# Altium footprint library 058_pcb_2.PcbLib: 23 footprints (part 2 of 2)
Each footprint in its own frame and in the unit in brackets; x right, y up, seen from the top. Pads: shape width x height; smd on the part's side, far side on the other; paste and mask are expansions set on the pad; w line width, h text height; cw(c..) or ccw(c..) is an arc to the next point about the centre after c.
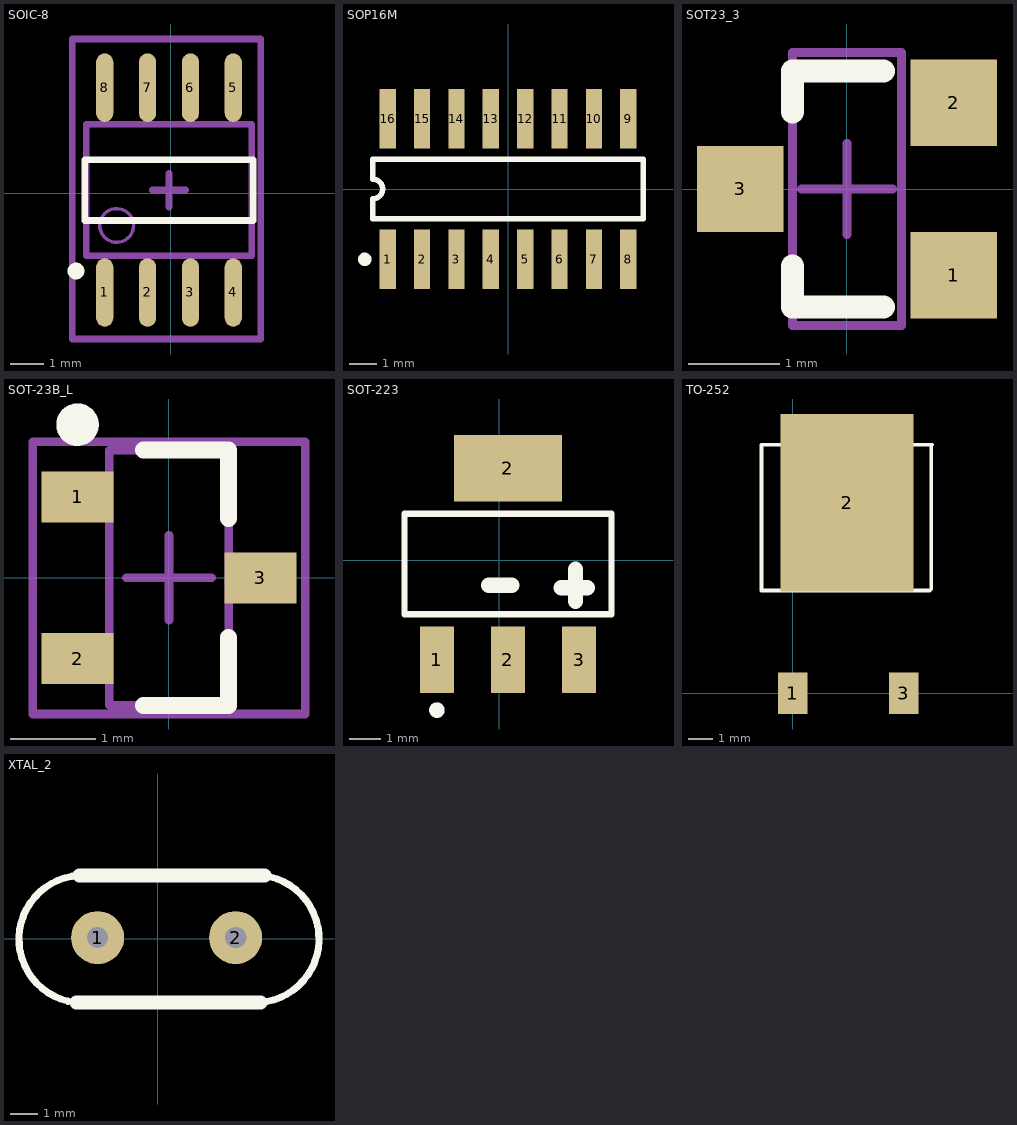
[diagram p1: the footprints below, top view; thin cyan lines are the x and y axes]

## SOIC-8 [mil]
height 33.46
pads (8):
  oval 20x80 smd: 1(-77.09,-115.71) 2(-27.09,-115.71) 3(22.91,-115.71) 4(72.91,-115.71) 5(72.91,123.27) 6(22.91,123.27) 7(-27.09,123.27) 8(-77.09,123.27)
Top Overlay:
  circle w9.84: c-110.55,-90.71 r4.92
  lines w7.87: -100.51,-31.65 96.34,-31.65 96.34,39.21 -100.51,39.21 -100.51,-31.65
Mechanical 13:
  circle w3.94: c-63.11,-37.56 r19.68
  lines w7.87: -98.54,-72.99 94.37,-72.99 94.37,80.55 -98.54,80.55 -98.54,-72.99
Mechanical 15:
  lines w7.87: -21.77,3.78 17.6,3.78 ; -2.09,-15.91 -2.09,23.46 ; -115,-170 105,-170 105,180 -115,180 -115,-170
3D body "SO-8.STEP": height 66.93, standoff 0, extent -96.46,-113.1 96.46,123.12

## SOP16M [mm]
height 0.85
pads (16):
  rect 0.6x2.2 smd: 1(-4.445,-2.6) 2(-3.175,-2.6) 3(-1.905,-2.6) 4(-0.635,-2.6) 5(0.635,-2.6) 6(1.905,-2.6) 7(3.175,-2.6) 8(4.445,-2.6) 9(4.445,2.6) 10(3.175,2.6) 11(1.905,2.6) 12(0.635,2.6) 13(-0.635,2.6) 14(-1.905,2.6) 15(-3.175,2.6) 16(-4.445,2.6)
Top Overlay:
  circle w0.25: c-5.295,-2.6 r0.125
  lines w0.2: -5,-1.1 5,-1.1 5,1.1 -5,1.1 -5,0.367 cw(c-5,0) -5,-0.367 -5,-1.1

## SOT23_3 [mm]
pads (3):
  rect 0.95x0.95 smd: 1(1.175,-0.95) 2(1.175,0.95) 3(-1.175,0)
Top Overlay:
  lines w0.254: -0.6,-0.85 -0.6,-1.3 0.4,-1.3 ; -0.6,0.85 -0.6,1.3 0.4,1.3
Mechanical 15:
  lines w0.1: -0.5,0 0.5,0 ; 0,-0.5 0,0.5 ; -0.6,-1.5 -0.6,1.5 0.6,1.5 0.6,-1.5 -0.6,-1.5
3D body "SOT23.STEP": height 1.08, standoff 0, extent -1.34,-1.5 1.3,1.5

## SOT-23B_L [mm] "SOT23, 3-Leads, Body 2.9x1.3mm, Pitch 0.95mm, Lead Span 2.4mm, IPC High Density"
height 1.14
pads (3):
  rect 0.85x0.6 smd: 1(-1.075,0.95) 2(-1.075,-0.95) 3(1.075,0)
Top Overlay:
  circle w0.25: c-1.075,1.8 r0.125
  lines w0.2: -0.3,-1.5 0.7,-1.5 0.7,-0.7 ; -0.3,1.5 0.7,1.5 0.7,0.7
Mechanical 13:
  lines w0.1: -0.7,-1.5 0.7,-1.5 0.7,1.5 -0.7,1.5 -0.7,-1.5
Mechanical 15:
  lines w0.1: -0.5,0 0.5,0 ; 0,-0.5 0,0.5 ; -1.6,-1.6 1.6,-1.6 1.6,1.6 -1.6,1.6 -1.6,-1.6
3D body: height 1.14, standoff 0, extent -0.7,-1.5 0.7,1.5

## SOT-223 [mm] "ASM1117系列"
height 0.85
pads (4):
  rect 1.1x2.15 smd: 1(-2.012,-3.227) 2(0.288,-3.227) 3(2.588,-3.227)
  rect 3.5x2.15 smd: 2(0.288,2.973)
Top Overlay:
  circle w0.25: c-2.012,-4.852 r0.125
  lines w0.2: -3.062,-1.752 -3.062,1.498 3.638,1.498 3.638,-1.752 -3.062,-1.752
  lines w0.5: -0.339,-0.81 0.411,-0.81 ; 2.011,-0.89 2.851,-0.89 ; 2.471,-1.33 2.471,-0.29
3D body "SOT-223_MP04A.STEP": height 1.7, standoff 0, extent -2.996,-3.48 3.504,3.48

## TO-252 [mm]
pads (3):
  rect 1.2x1.7 smd: 1(0.005,-0.005) 3(4.575,-0.005)
  rect 5.46x7.3 smd: 2(2.24,7.85)
Top Overlay:
  lines w0.152: -1.285,4.235 5.65,4.235 5.71,4.295 5.71,10.2 5.74,10.23 -1.285,10.23 -1.285,4.235

## XTAL_2 [mil]
height 33.46
pads (2):
  round 75 hole 30: 1(-84.92,1.38) 2(110.08,1.38)
Top Overlay:
  lines w10: -116.36,-90.31 cw(c-105.83,-0.79) -110.83,89.21 ; 142.72,-90.39 ccw(c137.72,-0.39) 148.25,89.13
  lines w19.68: -115.04,-90.12 144.96,-90.12 ; -110.83,89.21 151.18,89.21
3D body "SW3dPS-HP49US.STEP": height 137.8, standoff -157.48, extent -213.43,-90 233.43,93.07